# EAGLE library part SWITCH-2CH-3-POS (library Discrete)
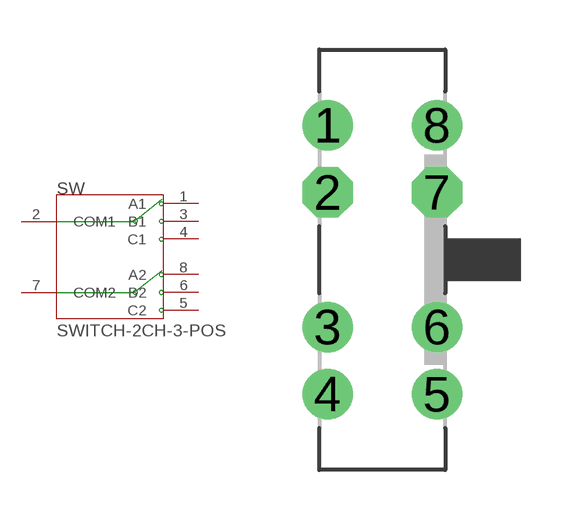
[diagram p7: symbol with the pads of 8P-2CH-2.0-12.7X3.8-90; footprint 8P-2CH-2.0-12.7X3.8-90]

Designator prefix SW

## SWITCH-2CH-3-POS-13X4  [8P-2CH-2.0-12.7X3.8-90]
1  A1
2  COM1
3  B1
4  C1
5  C2
6  B2
7  COM2
8  A2

## Footprint 8P-2CH-2.0-12.7X3.8-90 (pad centres in mm)
drill 0.813 pad 1.524 round: 1 -1.651,4.064; 3 -1.651,-2.032; 4 -1.651,-4.064; 5 1.651,-4.064; 6 1.651,-2.032; 8 1.651,4.064
drill 0.813 pad 1.524 octagon: 2 -1.651,2.032; 7 1.651,2.032